# Altium schematic symbol library PCB_Project1.SCHLIB: 6 symbols
Pins are listed as number, name and electrical type; pins without a type are passive.

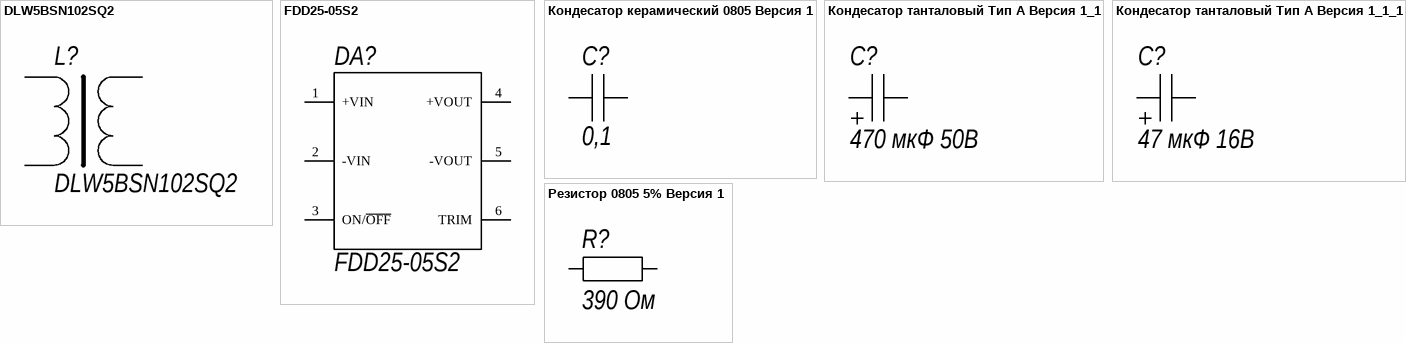
[diagram p0: symbols DLW5BSN102SQ2 to Резистор 0805 5% Версия 1]

## DLW5BSN102SQ2
designator L?
Дросель СМД; LatestRevisionDate: DLW5BSN102SQ2; Name: DLW5BSN102SQ2; OutComment: DLW5BSN102SQ2; PackageDescription: XTAL50; Publisher: IMTP FEB RAS
footprint DLW5BSN102Q2 (Дросель СМД)
pins: 1, 2, 3, 4

## FDD25-05S2
designator DA?
DC-DC; LastRevisionDate: 7.12.2010; Name: FDD25-05S2; OutComment: FDD25-05S2; PackageDescription: Кубик; Publisher: IMTP FEB RAS
footprint FDD25-05S2
pins: 1 +VIN, 2 -VIN, 3 ON/~{OFF}, 4 +VOUT, 5 -VOUT, 6 TRIM

## Кондесатор керамический 0805 Версия 1
designator C?, comment 0,1
CERCAP 0805; OutComment: CERCAP 0805  X7R 0,1 мкФ 50В; LatestRevisionDate: 25.03.2010; Name: 0,1; PackageDescription: 0805; Publisher: IMTP FEB RAS
footprint С0603 (Чип резистор; Размер 2 x 1.3 мм (Д x Ш))
footprint 0805 (Чип резистор; Размер 2 x 1.3 мм (Д x Ш))
pins: 1, 2

## Кондесатор танталовый Тип А Версия 1_1
designator C?, comment 470 мкФ 50В
TCAP A; OutComment: 680 мкФ 35В; LatestRevisionDate: 25.03.2010; Name: 470 мкФ 50В; Publisher: IMTP FEB RAS
footprint 470 мкФ 50В
pins: 1, 2

## Кондесатор танталовый Тип А Версия 1_1_1
designator C?, comment 47 мкФ 16В
TCAP A; OutComment: TCAP C 47 мкФ 16В; LatestRevisionDate: 25.03.2010; Name: 47 мкФ 16В; PackageDescription: C; Publisher: IMTP FEB RAS
footprint TC3216-1206 (Capacitor, SM Tantalum; Body 3.2 x 1.6 mm (LxW typ))
footprint TCAP D
footprint TCAP C
pins: 1, 2

## Резистор 0805 5% Версия 1
designator R?, comment 390 Ом
RES 0805 0.125 W 5%; OutComment: 0603 390 Ом 5%; LatestRevisionDate: 25.03.2010; Name: 390 Ом; PackageDescription: 0603; Publisher: IMTP FEB RAS
footprint 0805 (Чип резистор; Размер 2 x 1.3 мм (Д x Ш))
footprint 0603 (Чип резистор; Размер 1.6 x 0.8 мм (Д x Ш))
pins: 1, 2